# Altium integrated library Cypress Clocks & Buffers Clock Generation.IntLib: 249 symbols (part 2 of 12)
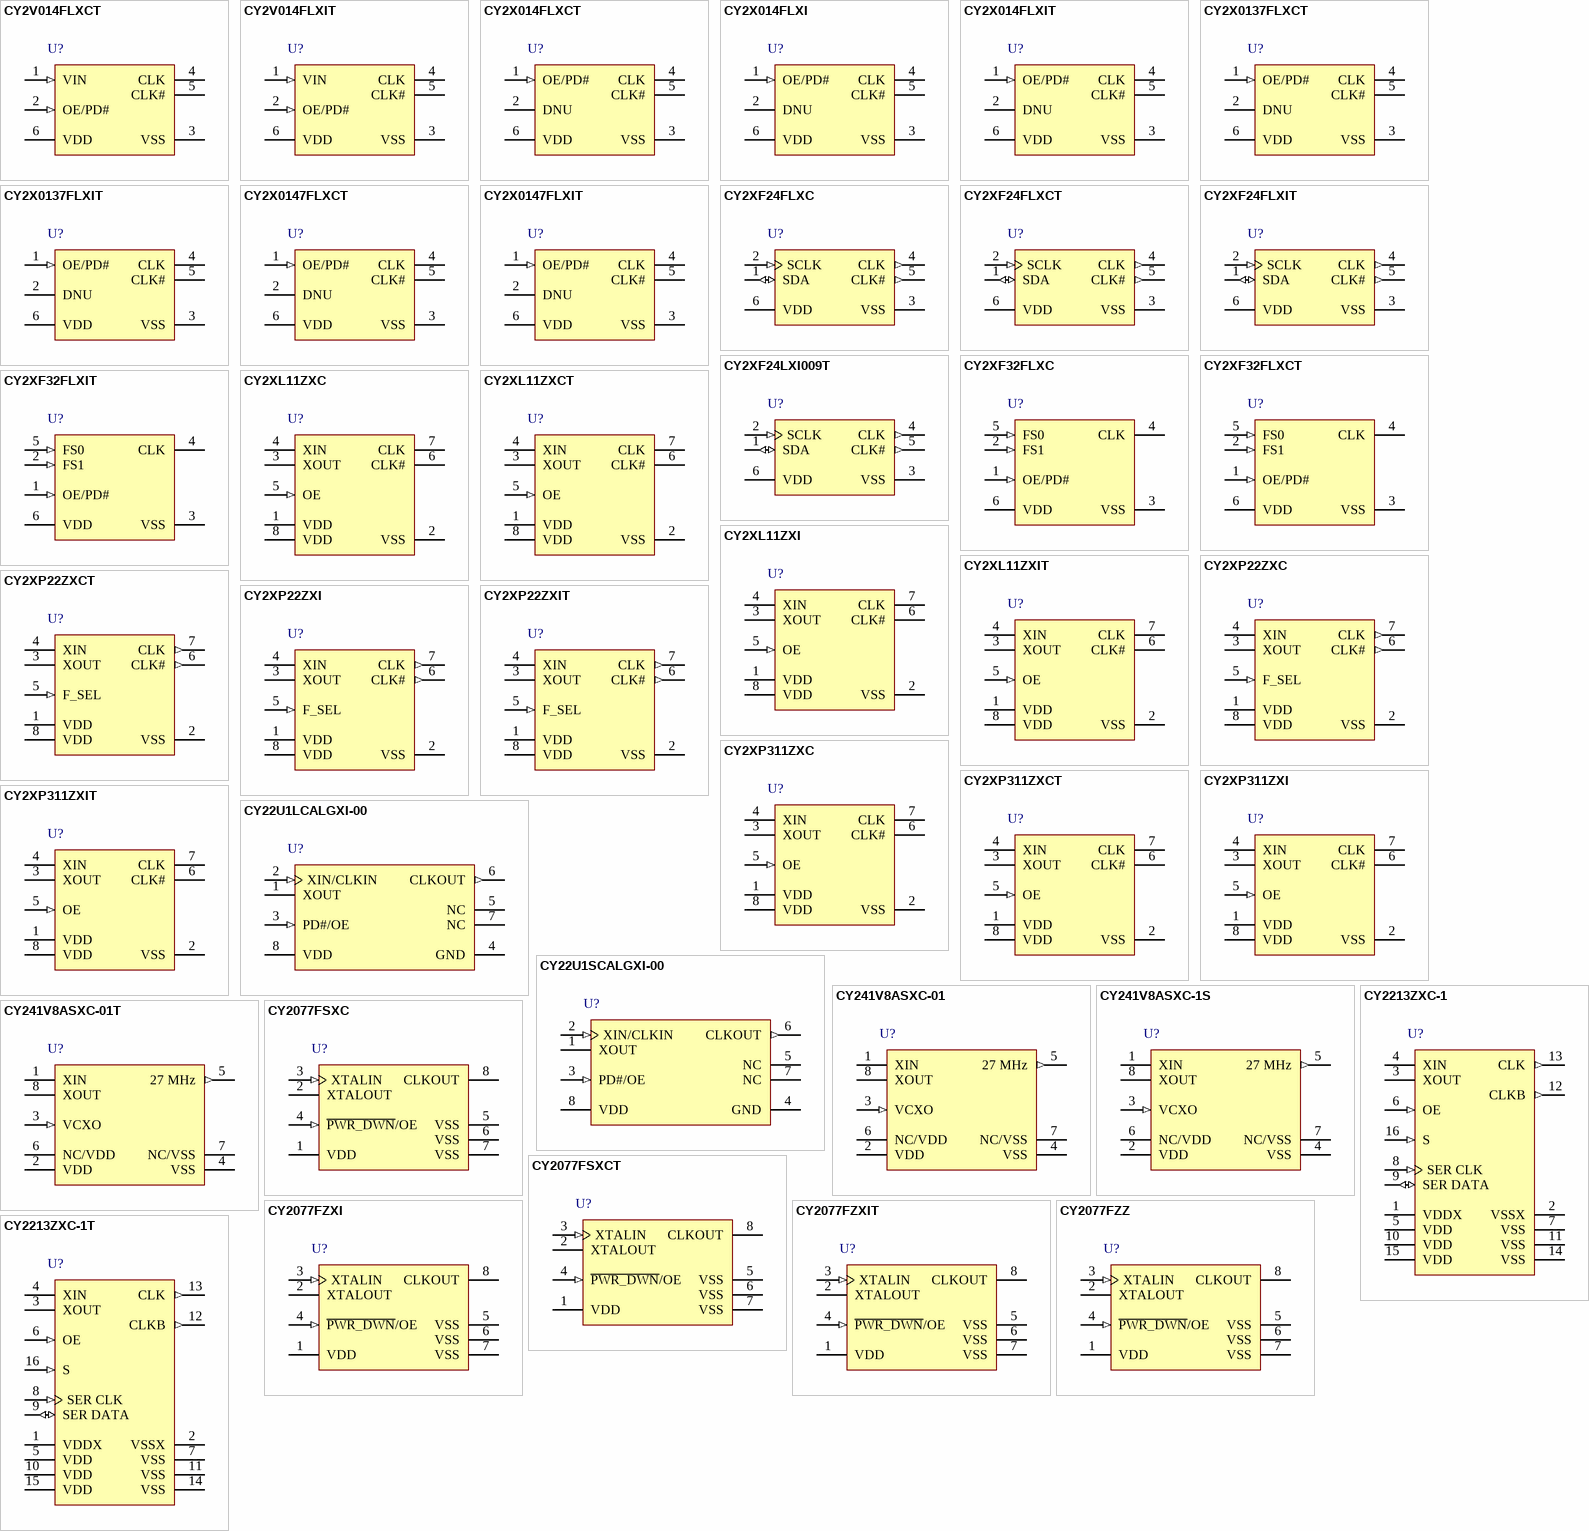
[diagram p9: symbols CY2V014FLXCT to CY2213ZXC-1T]

## CY241V8ASXC-01
designator U?
MPEG Clock Generator with VCXO, 3.3 V, 1 Output, 27 MHz, 0 to 70 degC, 8-Pin SOIC (S8), Tube; Manufacturer: Cypress; PartNumber: CY241V8ASXC-01; Input Frequency Max. (MHz): 13.5; Max. Operating Voltage (V): 3.465; Min. Operating Voltage (V): 3.135; No. of Outputs: 1; Output Frequency Max. (MHz): 27; DatasheetVersion: Rev. *F; PackageVersion: Rev. *F; PackageReference: S8; PackageDescription: 8-Pin Small Outline Integrated Circuit Package, Body 4.889 x 3.8985 mm, Pitch 1.27 mm; Supplier 1: Mouser; Supplier Part Number 1: 727-CY241V8ASXC-01; Input Frequency Min. (MHz): 13.5; Max. Operating Temp. (degreesC): 70; Min. Operating Temp. (degreesC): 0; Output Frequency Min. (MHz): 27; Packing: Tube; RoHS: Pb-Free; Mounting Technology: Surface Mount; Code_JEDEC: MS-012; ComponentLink1Description: Manufacturer URL; ComponentLink1URL: http://www.cypress.com/; ComponentLink2Description: Datasheet; ComponentLink2URL: http://www.cypress.com/?docID=21605; ComponentLink3Description: Package Specification; ComponentLink3URL: http://www.cypress.com/?docID=46287
footprint CYP-S8_N (SOIC, 8-Leads, Body 5x4mm, Pitch 1.27mm, IPC Medium Density)
footprint CYP-S8_L (SOIC, 8-Leads, Body 5x4mm, Pitch 1.27mm, IPC High Density)
footprint CYP-S8_M (SOIC, 8-Leads, Body 5x4mm, Pitch 1.27mm, IPC Low Density)
pins: 1 XIN "Reference crystal input", 2 VDD (power) "Voltage supply", 3 VCXO (in) "Input analog control for VCXO", 4 VSS (power) "Ground", 5 27 MHz (out) "27 MHz clock output", 6 NC/VDD "No connect or voltage supply", 7 NC/VSS "No connect or ground", 8 XOUT "Reference crystal output"

## CY241V8ASXC-1S
designator U?
MPEG Clock Generator with VCXO, 3.3 V, 1 Output, 27 MHz, 0 to 70 degC, 8-Pin SOIC (S8), Tube; Manufacturer: Cypress; PartNumber: CY241V8ASXC-1S; Input Frequency Max. (MHz): 13.5; Max. Operating Voltage (V): 3.465; Min. Operating Voltage (V): 3.135; No. of Outputs: 1; Output Frequency Max. (MHz): 27; DatasheetVersion: Rev. *F; PackageVersion: Rev. *F; PackageReference: S8; PackageDescription: 8-Pin Small Outline Integrated Circuit Package, Body 4.889 x 3.8985 mm, Pitch 1.27 mm; Input Frequency Min. (MHz): 13.5; Max. Operating Temp. (degreesC): 70; Min. Operating Temp. (degreesC): 0; Output Frequency Min. (MHz): 27; Packing: Tube; RoHS: Pb-Free; Mounting Technology: Surface Mount; Code_JEDEC: MS-012; ComponentLink1Description: Manufacturer URL; ComponentLink1URL: http://www.cypress.com/; ComponentLink2Description: Datasheet; ComponentLink2URL: http://www.cypress.com/?docID=21605; ComponentLink3Description: Package Specification; ComponentLink3URL: http://www.cypress.com/?docID=46287
footprint CYP-S8_N (SOIC, 8-Leads, Body 5x4mm, Pitch 1.27mm, IPC Medium Density)
footprint CYP-S8_L (SOIC, 8-Leads, Body 5x4mm, Pitch 1.27mm, IPC High Density)
footprint CYP-S8_M (SOIC, 8-Leads, Body 5x4mm, Pitch 1.27mm, IPC Low Density)
pins: 1 XIN "Reference crystal input", 2 VDD (power) "Voltage supply", 3 VCXO (in) "Input analog control for VCXO", 4 VSS (power) "Ground", 5 27 MHz (out) "27 MHz clock output", 6 NC/VDD "No connect or voltage supply", 7 NC/VSS "No connect or ground", 8 XOUT "Reference crystal output"

## CY241V8ASXC-01T
designator U?
MPEG Clock Generator with VCXO, 3.3 V, 1 Output, 27 MHz, 0 to 70 degC, 8-Pin SOIC (S8), Tape and Reel; Manufacturer: Cypress; PartNumber: CY241V8ASXC-01T; Input Frequency Max. (MHz): 13.5; Max. Operating Voltage (V): 3.465; Min. Operating Voltage (V): 3.135; No. of Outputs: 1; Output Frequency Max. (MHz): 27; DatasheetVersion: Rev. *F; PackageVersion: Rev. *F; PackageReference: S8; PackageDescription: 8-Pin Small Outline Integrated Circuit Package, Body 4.889 x 3.8985 mm, Pitch 1.27 mm; Supplier 1: Mouser; Supplier Part Number 1: 727-CY241V8ASXC-01T; Input Frequency Min. (MHz): 13.5; Max. Operating Temp. (degreesC): 70; Min. Operating Temp. (degreesC): 0; Output Frequency Min. (MHz): 27; Packing: Tape and Reel; RoHS: Pb-Free; Mounting Technology: Surface Mount; Code_JEDEC: MS-012; ComponentLink1Description: Manufacturer URL; ComponentLink1URL: http://www.cypress.com/; ComponentLink2Description: Datasheet; ComponentLink2URL: http://www.cypress.com/?docID=21605; ComponentLink3Description: Package Specification; ComponentLink3URL: http://www.cypress.com/?docID=46287
footprint CYP-S8_N (SOIC, 8-Leads, Body 5x4mm, Pitch 1.27mm, IPC Medium Density)
footprint CYP-S8_L (SOIC, 8-Leads, Body 5x4mm, Pitch 1.27mm, IPC High Density)
footprint CYP-S8_M (SOIC, 8-Leads, Body 5x4mm, Pitch 1.27mm, IPC Low Density)
pins: 1 XIN "Reference crystal input", 2 VDD (power) "Voltage supply", 3 VCXO (in) "Input analog control for VCXO", 4 VSS (power) "Ground", 5 27 MHz (out) "27 MHz clock output", 6 NC/VDD "No connect or voltage supply", 7 NC/VSS "No connect or ground", 8 XOUT "Reference crystal output"

## CY2077FSXC
designator U?
High-accuracy EPROM Programmable Single-PLL Clock Generator, 3.3 / 5.0 V, 1 Output, 0.39 to 133 MHz, 0 to 70 degC, 8-Pin SOIC (SX8), Tube; Manufacturer: Cypress; PartNumber: CY2077FSXC; Input Frequency Max. (MHz): 75; Input Frequency Min. (MHz): 1; Max. Operating Voltage (V): 5.5; Min. Operating Voltage (V): 3; Output Frequency Max. (MHz): 133; Output Frequency Min. (MHz): 0.39; DatasheetVersion: Rev. *G; PackageVersion: Rev. *E, 06/2011; PackageReference: SX8; PackageDescription: 8-pin Lead SOIC-S08, Body 4.89 x 3.90 mm,Pitch 1.27 mm; Supplier 1: Digi-Key; Supplier Part Number 1: CY2077FSXC-ND; Supplier 2: Mouser; Supplier Part Number 2: 727-CY2077FSXC; Max. Operating Temp. (degreesC): 70; Min. Operating Temp. (degreesC): 0; No. of Outputs: 1; Packing: Tube; RoHS: Pb-Free; Mounting Technology: Surface Mount; Code_JEDEC: MS-012; ComponentLink1Description: Manufacturer URL; ComponentLink1URL: http://www.cypress.com/; ComponentLink2Description: Datasheet; ComponentLink2URL: http://www.cypress.com/?docID=34267; ComponentLink3Description: Package Specification; ComponentLink3URL: http://www.cypress.com/?docID=39153
footprint CYP-SX8_N (SOIC, 8-Leads, Body 4.89x3.90mm, Pitch 1.27mm, IPC Medium Density)
footprint CYP-SX8_L (SOIC, 8-Leads, Body 4.89x3.90mm, Pitch 1.27mm, IPC High Density)
footprint CYP-SX8_M (SOIC, 8-Leads, Body 4.89x3.90mm, Pitch 1.27mm, IPC Low Density)
pins: 1 VDD (power) "Voltage supply", 2 XTALOUT "Crystal output (leave this pin floating when external reference is used)", 3 XTALIN (in) "Crystal input or external input reference", 4 ~{PWR_DWN}/OE (in) "EPROM programmable power down or output enable pin. PWR_DWN is active low. OE is active high. Weak pull up.", 5 VSS (power) "Ground (all the pins must be grounded)", 6 VSS (power) "Ground (all the pins must be grounded)", 7 VSS (power) "Ground (all the pins must be grounded)", 8 CLKOUT (hiz) "Clock output. Weak pull down"

## CY2077FSXCT
designator U?
High-accuracy EPROM Programmable Single-PLL Clock Generator, 3.3 / 5.0 V, 1 Output, 0.39 to 133 MHz, 0 to 70 degC, 8-Pin SOIC (SX8), Tape and Reel; Manufacturer: Cypress; PartNumber: CY2077FSXCT; Input Frequency Max. (MHz): 75; Input Frequency Min. (MHz): 1; Max. Operating Voltage (V): 5.5; Min. Operating Voltage (V): 3; Output Frequency Max. (MHz): 133; Output Frequency Min. (MHz): 0.39; DatasheetVersion: Rev. *G; PackageVersion: Rev. *E, 06/2011; PackageReference: SX8; PackageDescription: 8-pin Lead SOIC-S08, Body 4.89 x 3.90 mm,Pitch 1.27 mm; Supplier 1: Digi-Key; Supplier Part Number 1: CY2077FSXCT-ND; Supplier 2: Mouser; Supplier Part Number 2: 727-CY2077FSXCT; Max. Operating Temp. (degreesC): 70; Min. Operating Temp. (degreesC): 0; No. of Outputs: 1; Packing: Tape and Reel; RoHS: Pb-Free; Mounting Technology: Surface Mount; Code_JEDEC: MS-012; ComponentLink1Description: Manufacturer URL; ComponentLink1URL: http://www.cypress.com/; ComponentLink2Description: Datasheet; ComponentLink2URL: http://www.cypress.com/?docID=34267; ComponentLink3Description: Package Specification; ComponentLink3URL: http://www.cypress.com/?docID=39153
footprint CYP-SX8_N (SOIC, 8-Leads, Body 4.89x3.90mm, Pitch 1.27mm, IPC Medium Density)
footprint CYP-SX8_L (SOIC, 8-Leads, Body 4.89x3.90mm, Pitch 1.27mm, IPC High Density)
footprint CYP-SX8_M (SOIC, 8-Leads, Body 4.89x3.90mm, Pitch 1.27mm, IPC Low Density)
pins: 1 VDD (power) "Voltage supply", 2 XTALOUT "Crystal output (leave this pin floating when external reference is used)", 3 XTALIN (in) "Crystal input or external input reference", 4 ~{PWR_DWN}/OE (in) "EPROM programmable power down or output enable pin. PWR_DWN is active low. OE is active high. Weak pull up.", 5 VSS (power) "Ground (all the pins must be grounded)", 6 VSS (power) "Ground (all the pins must be grounded)", 7 VSS (power) "Ground (all the pins must be grounded)", 8 CLKOUT (hiz) "Clock output. Weak pull down"

## CY2077FZXI
designator U?
High-accuracy EPROM Programmable Single-PLL Clock Generator, 3.3 / 5.0 V, 1 Output, 0.39 to 133 MHz, -40 to 85 degC, 8-Pin TSSOP (ZX8), Tube; Manufacturer: Cypress; PartNumber: CY2077FZXI; Input Frequency Max. (MHz): 75; Input Frequency Min. (MHz): 1; Max. Operating Voltage (V): 5.5; Min. Operating Voltage (V): 3; Output Frequency Max. (MHz): 133; Output Frequency Min. (MHz): 0.39; DatasheetVersion: Rev. *G; PackageVersion: Rev. *D, 09/2011; PackageReference: ZX8; PackageDescription: 8-Pin Thin Shrink Small Outline Package, Body 3 x 4.4 mm, Pitch 0.65 mm; Supplier 1: Digi-Key; Supplier Part Number 1: CY2077FZXI-ND; Supplier 2: Mouser; Supplier Part Number 2: 727-CY2077FZXI; Max. Operating Temp. (degreesC): 85; Min. Operating Temp. (degreesC): -40; No. of Outputs: 1; Packing: Tube; RoHS: Pb-Free; Mounting Technology: Surface Mount; Code_JEDEC: MO-153; ComponentLink1Description: Manufacturer URL; ComponentLink1URL: http://www.cypress.com/; ComponentLink2Description: Datasheet; ComponentLink2URL: http://www.cypress.com/?docID=34267; ComponentLink3Description: Package Specification; ComponentLink3URL: http://www.cypress.com/?docID=39142
footprint CYP-ZX8_N (SOP, 8-Leads, Body 4.5x3.1mm, Pitch 0.65mm, IPC Medium Density)
footprint CYP-ZX8_L (SOP, 8-Leads, Body 4.5x3.1mm, Pitch 0.65mm, IPC High Density)
footprint CYP-ZX8_M (SOP, 8-Leads, Body 4.5x3.1mm, Pitch 0.65mm, IPC Low Density)
pins: 1 VDD (power) "Voltage supply", 2 XTALOUT "Crystal output (leave this pin floating when external reference is used)", 3 XTALIN (in) "Crystal input or external input reference", 4 ~{PWR_DWN}/OE (in) "EPROM programmable power down or output enable pin. PWR_DWN is active low. OE is active high. Weak pull up.", 5 VSS (power) "Ground (all the pins must be grounded)", 6 VSS (power) "Ground (all the pins must be grounded)", 7 VSS (power) "Ground (all the pins must be grounded)", 8 CLKOUT (hiz) "Clock output. Weak pull down"

## CY2077FZXIT
designator U?
High-accuracy EPROM Programmable Single-PLL Clock Generator, 3.3 / 5.0 V, 1 Output, 0.39 to 133 MHz, -40 to 85 degC, 8-Pin TSSOP (ZX8), Tape and Reel; Manufacturer: Cypress; PartNumber: CY2077FZXIT; Input Frequency Max. (MHz): 75; Input Frequency Min. (MHz): 1; Max. Operating Voltage (V): 5.5; Min. Operating Voltage (V): 3; Output Frequency Max. (MHz): 133; Output Frequency Min. (MHz): 0.39; DatasheetVersion: Rev. *G; PackageVersion: Rev. *D, 09/2011; PackageReference: ZX8; PackageDescription: 8-Pin Thin Shrink Small Outline Package, Body 3 x 4.4 mm, Pitch 0.65 mm; Supplier 1: Digi-Key; Supplier Part Number 1: CY2077FZXIT-ND; Supplier 2: Mouser; Supplier Part Number 2: 727-CY2077FZXIT; Max. Operating Temp. (degreesC): 85; Min. Operating Temp. (degreesC): -40; No. of Outputs: 1; Packing: Tape and Reel; RoHS: Pb-Free; Mounting Technology: Surface Mount; Code_JEDEC: MO-153; ComponentLink1Description: Manufacturer URL; ComponentLink1URL: http://www.cypress.com/; ComponentLink2Description: Datasheet; ComponentLink2URL: http://www.cypress.com/?docID=34267; ComponentLink3Description: Package Specification; ComponentLink3URL: http://www.cypress.com/?docID=39142
footprint CYP-ZX8_N (SOP, 8-Leads, Body 4.5x3.1mm, Pitch 0.65mm, IPC Medium Density)
footprint CYP-ZX8_L (SOP, 8-Leads, Body 4.5x3.1mm, Pitch 0.65mm, IPC High Density)
footprint CYP-ZX8_M (SOP, 8-Leads, Body 4.5x3.1mm, Pitch 0.65mm, IPC Low Density)
pins: 1 VDD (power) "Voltage supply", 2 XTALOUT "Crystal output (leave this pin floating when external reference is used)", 3 XTALIN (in) "Crystal input or external input reference", 4 ~{PWR_DWN}/OE (in) "EPROM programmable power down or output enable pin. PWR_DWN is active low. OE is active high. Weak pull up.", 5 VSS (power) "Ground (all the pins must be grounded)", 6 VSS (power) "Ground (all the pins must be grounded)", 7 VSS (power) "Ground (all the pins must be grounded)", 8 CLKOUT (hiz) "Clock output. Weak pull down"

## CY2077FZZ
designator U?
High-accuracy EPROM Programmable Single-PLL Clock Generator, 3.3 / 5.0 V, 1 Output, 0.39 to 133 MHz, 0 to 70 degC, 8-Pin TSSOP (ZX8), Tube; Manufacturer: Cypress; PartNumber: CY2077FZZ; Input Frequency Max. (MHz): 75; Input Frequency Min. (MHz): 1; Max. Operating Voltage (V): 5.5; Min. Operating Voltage (V): 3; Output Frequency Max. (MHz): 133; Output Frequency Min. (MHz): 0.39; DatasheetVersion: Rev. *G; PackageVersion: Rev. *D; PackageReference: Z8; PackageDescription: 8-Pin Thin Shrink Small Outline Package, Body 3 x 4.4 mm, Pitch 0.65 mm; Supplier 1: Digi-Key; Supplier Part Number 1: CY2077FZZ-ND; Supplier 2: Mouser; Supplier Part Number 2: 727-CY2077FZZ; Max. Operating Temp. (degreesC): 70; Min. Operating Temp. (degreesC): 0; No. of Outputs: 1; Packing: Tube; RoHS: Pb-Free; Mounting Technology: Surface Mount; Code_JEDEC: MO-153; ComponentLink1Description: Manufacturer URL; ComponentLink1URL: http://www.cypress.com/; ComponentLink2Description: Datasheet; ComponentLink2URL: http://www.cypress.com/?docID=34267; ComponentLink3Description: Package Specification; ComponentLink3URL: http://www.cypress.com/?docID=46096
footprint CYP-Z8_N (SOP, 8-Leads, Body 4.5x3.1mm, Pitch 0.65mm, IPC Medium Density)
footprint CYP-Z8_L (SOP, 8-Leads, Body 4.5x3.1mm, Pitch 0.65mm, IPC High Density)
footprint CYP-Z8_M (SOP, 8-Leads, Body 4.5x3.1mm, Pitch 0.65mm, IPC Low Density)
pins: 1 VDD (power) "Voltage supply", 2 XTALOUT "Crystal output (leave this pin floating when external reference is used)", 3 XTALIN (in) "Crystal input or external input reference", 4 ~{PWR_DWN}/OE (in) "EPROM programmable power down or output enable pin. PWR_DWN is active low. OE is active high. Weak pull up.", 5 VSS (power) "Ground (all the pins must be grounded)", 6 VSS (power) "Ground (all the pins must be grounded)", 7 VSS (power) "Ground (all the pins must be grounded)", 8 CLKOUT (hiz) "Clock output. Weak pull down"

## CY2213ZXC-1
designator U?
High Frequency Programmable PECL Clock Generator, 3.3 V, 1 Output, 125 to 400 MHz, 0 to 70 degC, 16-Pin TSSOP (ZX16), Tube; Manufacturer: Cypress; PartNumber: CY2213ZXC-1; Input Frequency Max. (MHz): 133; Input Frequency Min. (MHz): 1; Max. Operating Voltage (V): 3.6; Min. Operating Voltage (V): 3; Output Frequency Max. (MHz): 400; Output Frequency Min. (MHz): 125; DatasheetVersion: Rev. *H; PackageVersion: Rev. *D, 09/2011; PackageReference: ZX16; PackageDescription: 16-Pin Thin Shrink Small Outline Package, Body 5 x 4.4 mm, Pitch 0.65 mm; Supplier 1: Mouser; Supplier Part Number 1: 727-CY2213ZXC-1; Max. Operating Temp. (degreesC): 70; Min. Operating Temp. (degreesC): 0; No. of Outputs: 1; Packing: Tube; RoHS: Pb-Free; Mounting Technology: Surface Mount; Code_JEDEC: MO-153; ComponentLink1Description: Manufacturer URL; ComponentLink1URL: http://www.cypress.com/; ComponentLink2Description: Datasheet; ComponentLink2URL: http://www.cypress.com/?docID=38842; ComponentLink3Description: Package Specification; ComponentLink3URL: http://www.cypress.com/?docID=39143
footprint CYP-ZX16_N (SOP, 16-Leads, Body 5.1x4.5mm, Pitch 0.65mm, IPC Medium Density)
footprint CYP-ZX16_L (SOP, 16-Leads, Body 5.1x4.5mm, Pitch 0.65mm, IPC High Density)
footprint CYP-ZX16_M (SOP, 16-Leads, Body 5.1x4.5mm, Pitch 0.65mm, IPC Low Density)
pins: 1 VDDX (power) "3.3 V Power Supply for Crystal Driver", 2 VSSX (power) "Ground for Crystal Driver", 3 XOUT "Reference Crystal Feedback", 4 XIN "Reference Crystal Input", 5 VDD (power) "3.3 V Power Supply (all VDD pins must be tied directly on board)", 6 OE (in) "Output Enable, 0 = output disable, 1 = output enable (no internal pull up)", 7 VSS (power) "Ground", 8 SER CLK (in) "Serial Interface Clock", 9 SER DATA (io) "Serial Interface Data", 10 VDD (power) "3.3 V Power Supply (all VDD pins must be tied directly on board)", 11 VSS (power) "Ground", 12 CLKB (out) "LVPECL Output Clock (complement)", 13 CLK (out) "LVPECL Output Clock", 14 VSS (power) "Ground", 15 VDD (power) "3.3 V Power Supply (all VDD pins must be tied directly on board)", 16 S (in) "PLL Multiplier Select Input, Pull up Resistor Internal"

## CY2213ZXC-1T
designator U?
High Frequency Programmable PECL Clock Generator, 3.3 V, 1 Output, 125 to 400 MHz, 0 to 70 degC, 16-Pin TSSOP (ZX16), Tape and Reel; Manufacturer: Cypress; PartNumber: CY2213ZXC-1T; Input Frequency Max. (MHz): 133; Input Frequency Min. (MHz): 1; Max. Operating Voltage (V): 3.6; Min. Operating Voltage (V): 3; Output Frequency Max. (MHz): 400; Output Frequency Min. (MHz): 125; DatasheetVersion: Rev. *H; PackageVersion: Rev. *D, 09/2011; PackageReference: ZX16; PackageDescription: 16-Pin Thin Shrink Small Outline Package, Body 5 x 4.4 mm, Pitch 0.65 mm; Supplier 1: Mouser; Supplier Part Number 1: 727-CY2213ZXC-1T; Max. Operating Temp. (degreesC): 70; Min. Operating Temp. (degreesC): 0; No. of Outputs: 1; Packing: Tape and Reel; RoHS: Pb-Free; Mounting Technology: Surface Mount; Code_JEDEC: MO-153; ComponentLink1Description: Manufacturer URL; ComponentLink1URL: http://www.cypress.com/; ComponentLink2Description: Datasheet; ComponentLink2URL: http://www.cypress.com/?docID=38842; ComponentLink3Description: Package Specification; ComponentLink3URL: http://www.cypress.com/?docID=39143
footprint CYP-ZX16_N (SOP, 16-Leads, Body 5.1x4.5mm, Pitch 0.65mm, IPC Medium Density)
footprint CYP-ZX16_L (SOP, 16-Leads, Body 5.1x4.5mm, Pitch 0.65mm, IPC High Density)
footprint CYP-ZX16_M (SOP, 16-Leads, Body 5.1x4.5mm, Pitch 0.65mm, IPC Low Density)
pins: 1 VDDX (power) "3.3 V Power Supply for Crystal Driver", 2 VSSX (power) "Ground for Crystal Driver", 3 XOUT "Reference Crystal Feedback", 4 XIN "Reference Crystal Input", 5 VDD (power) "3.3 V Power Supply (all VDD pins must be tied directly on board)", 6 OE (in) "Output Enable, 0 = output disable, 1 = output enable (no internal pull up)", 7 VSS (power) "Ground", 8 SER CLK (in) "Serial Interface Clock", 9 SER DATA (io) "Serial Interface Data", 10 VDD (power) "3.3 V Power Supply (all VDD pins must be tied directly on board)", 11 VSS (power) "Ground", 12 CLKB (out) "LVPECL Output Clock (complement)", 13 CLK (out) "LVPECL Output Clock", 14 VSS (power) "Ground", 15 VDD (power) "3.3 V Power Supply (all VDD pins must be tied directly on board)", 16 S (in) "PLL Multiplier Select Input, Pull up Resistor Internal"

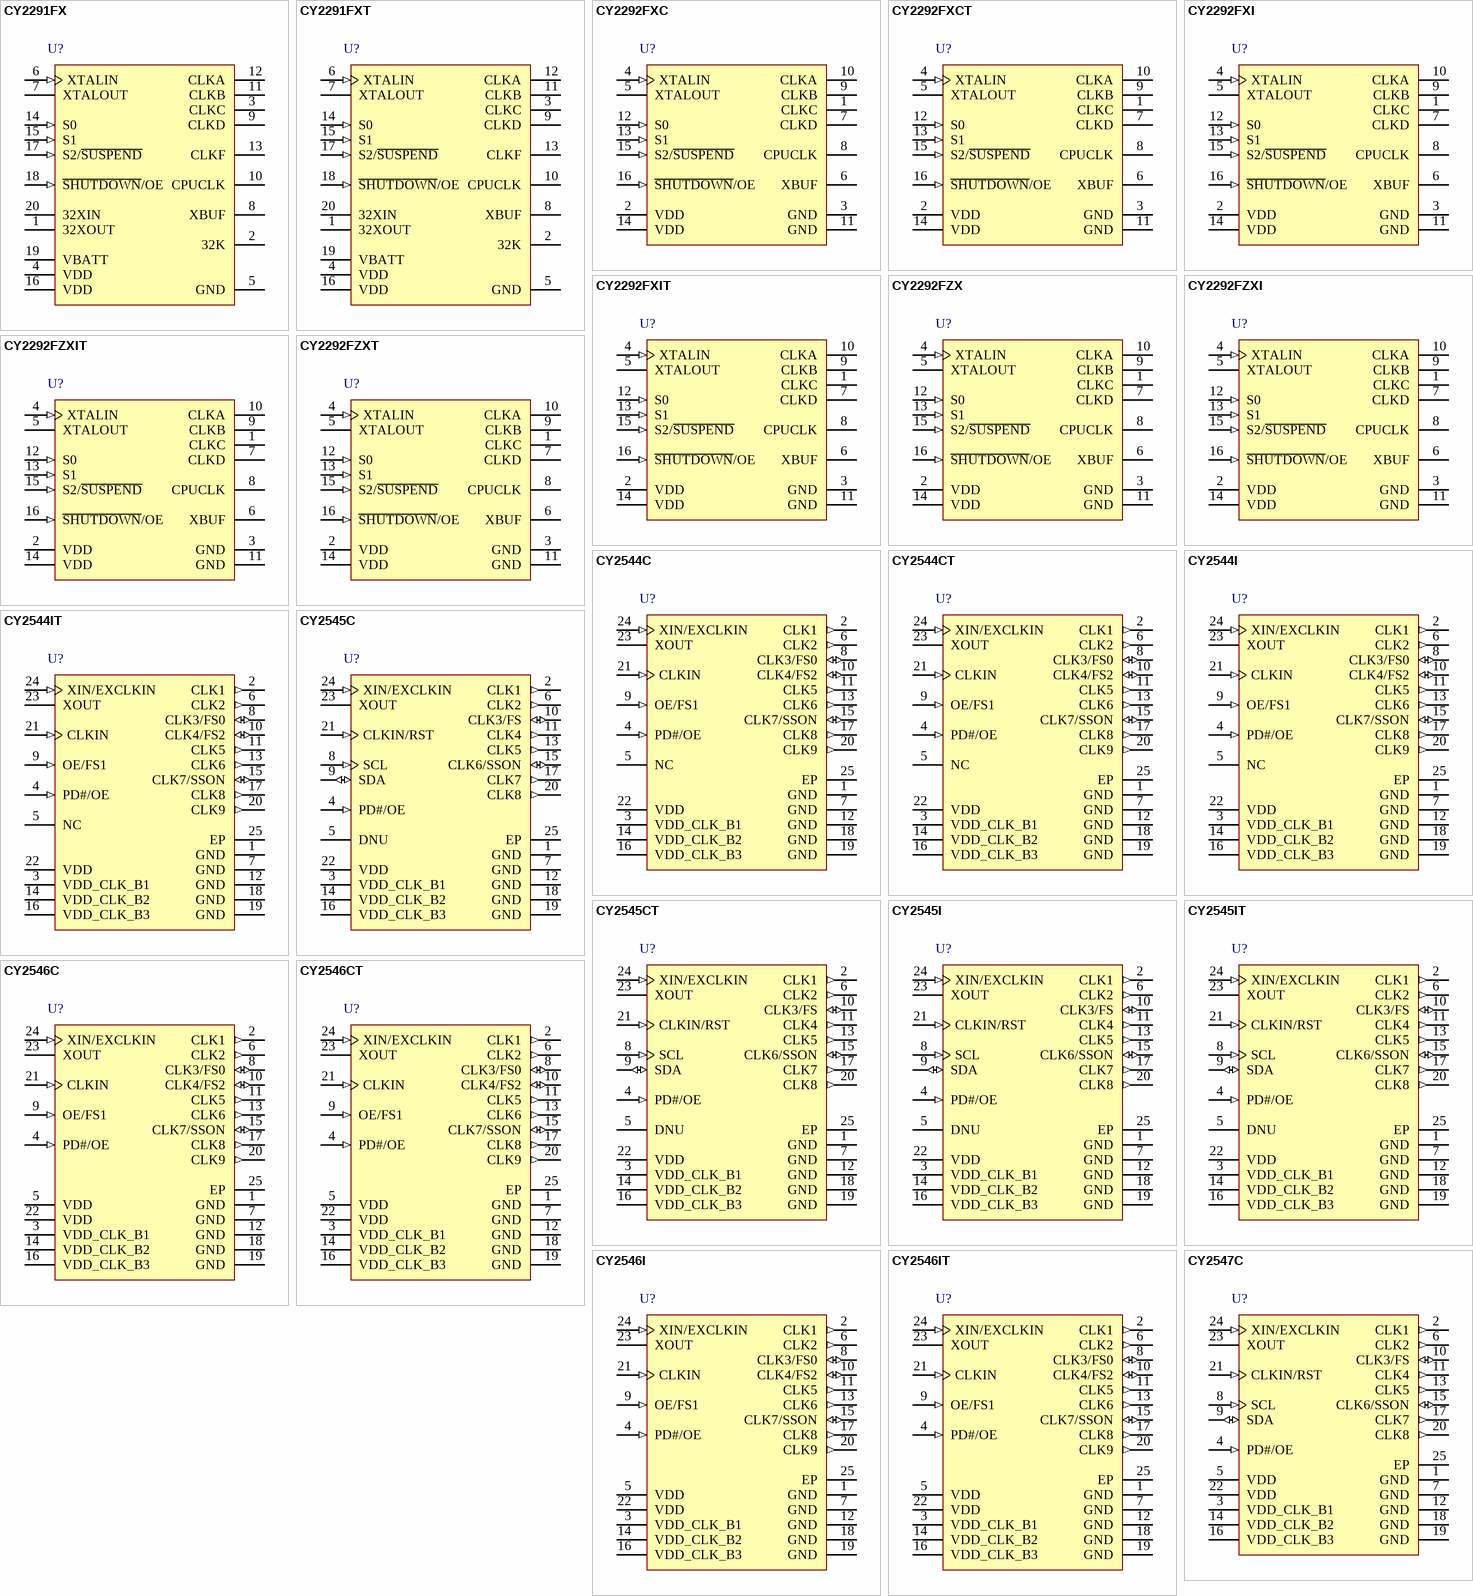
[diagram p1: symbols CY2291FX to CY2547C]

## CY2291FX
designator U?
Three-PLL General Purpose EPROM Programmable Clock Generator, 3.3 / 5.0 V, 8 Outputs, 0.077 to 90 MHz, 0 to 70 degC, 20-Pin SOIC (S20.3), Tube; Manufacturer: Cypress; PartNumber: CY2291FX; Input Frequency Max. (MHz): 30; Input Frequency Min. (MHz): 1; Max. Operating Voltage (V): 5.5; Min. Operating Voltage (V): 3; No. of Outputs: 8; Output Frequency Max. (MHz): 90; Output Frequency Min. (MHz): 0.077; DatasheetVersion: Rev. *H; PackageVersion: Rev. *E; PackageReference: S20.3; PackageDescription: 20-Pin SOIC, Body 12.83 x 7.51 mm, Pitch 1.27 mm; Supplier 1: Digi-Key; Supplier Part Number 1: 428-2184-5-ND; Supplier 2: Farnell; Supplier Part Number 2: 8911240; Supplier 3: Mouser; Supplier Part Number 3: 727-CY2291FX; Max. Operating Temp. (degreesC): 70; Min. Operating Temp. (degreesC): 0; Packing: Tube; RoHS: Pb-Free; Mounting Technology: Surface Mount; Code_JEDEC: MO-119; ComponentLink1Description: Manufacturer URL; ComponentLink1URL: http://www.cypress.com/; ComponentLink2Description: Datasheet; ComponentLink2URL: http://www.cypress.com/?docID=46969; ComponentLink3Description: Package Specification; ComponentLink3URL: http://www.cypress.com/?docID=46969
footprint CYP-S20.3_N (SOIC, 20-Leads, Body 12.83x7.51mm, Pitch 1.27mm, IPC Medium Density)
footprint CYP-S20.3_L (SOIC, 20-Leads, Body 12.83x7.51mm, Pitch 1.27mm, IPC High Density)
footprint CYP-S20.3_M (SOIC, 20-Leads, Body 12.83x7.51mm, Pitch 1.27mm, IPC Low Density)
pins: 1 32XOUT "32.768-kHz crystal feedback.", 2 32K (hiz) "32.768-kHz output (always active if VBATT is present).", 3 CLKC (hiz) "Configurable clock output C.", 4 VDD (power) "Voltage supply.", 5 GND (power) "Ground.", 6 XTALIN (in) "Reference crystal input or external reference clock input.", 7 XTALOUT "Reference crystal feedback.", 8 XBUF (hiz) "Buffered reference clock output.", 9 CLKD (hiz) "Configurable clock output D.", 10 CPUCLK (hiz) "CPU frequency clock output.", 11 CLKB (hiz) "Configurable clock output B.", 12 CLKA (hiz) "Configurable clock output A.", 13 CLKF (hiz) "Configurable clock output F.", 14 S0 (in) "CPU clock select input, bit 0.", 15 S1 (in) "CPU clock select input, bit 1.", 16 VDD (power) "Voltage supply.", 17 S2/~{SUSPEND} (in) "CPU clock select input, bit 2. Optionally enables suspend feature when LOW.", 18 ~{SHUTDOWN}/OE (in) "Places outputs in three-state[4] condition and shuts down chip when LOW. Optionally, only places outputs in three-state[4] condition and does not shut down chip when LOW.", 19 VBATT (power) "Battery supply for 32.768-kHz circuit.", 20 32XIN "32.768 kHz crystal input."

## CY2291FXT
designator U?
Three-PLL General Purpose EPROM Programmable Clock Generator, 3.3 / 5.0 V, 8 Outputs, 0.077 to 90 MHz, 0 to 70 degC, 20-Pin SOIC (S20.3), Tape and Reel; Manufacturer: Cypress; PartNumber: CY2291FXT; Input Frequency Max. (MHz): 30; Input Frequency Min. (MHz): 1; Max. Operating Voltage (V): 5.5; Min. Operating Voltage (V): 3; No. of Outputs: 8; Output Frequency Max. (MHz): 90; Output Frequency Min. (MHz): 0.077; DatasheetVersion: Rev. *H; PackageVersion: Rev. *E; PackageReference: S20.3; PackageDescription: 20-Pin SOIC, Body 12.83 x 7.51 mm, Pitch 1.27 mm; Supplier 1: Digi-Key; Supplier Part Number 1: CY2291FXT-ND; Supplier 2: Mouser; Supplier Part Number 2: 727-CY2291FXT; Max. Operating Temp. (degreesC): 70; Min. Operating Temp. (degreesC): 0; Packing: Tape and Reel; RoHS: Pb-Free; Mounting Technology: Surface Mount; Code_JEDEC: MO-119; ComponentLink1Description: Manufacturer URL; ComponentLink1URL: http://www.cypress.com/; ComponentLink2Description: Datasheet; ComponentLink2URL: http://www.cypress.com/?docID=46969; ComponentLink3Description: Package Specification; ComponentLink3URL: http://www.cypress.com/?docID=46969
footprint CYP-S20.3_N (SOIC, 20-Leads, Body 12.83x7.51mm, Pitch 1.27mm, IPC Medium Density)
footprint CYP-S20.3_L (SOIC, 20-Leads, Body 12.83x7.51mm, Pitch 1.27mm, IPC High Density)
footprint CYP-S20.3_M (SOIC, 20-Leads, Body 12.83x7.51mm, Pitch 1.27mm, IPC Low Density)
pins: 1 32XOUT "32.768-kHz crystal feedback.", 2 32K (hiz) "32.768-kHz output (always active if VBATT is present).", 3 CLKC (hiz) "Configurable clock output C.", 4 VDD (power) "Voltage supply.", 5 GND (power) "Ground.", 6 XTALIN (in) "Reference crystal input or external reference clock input.", 7 XTALOUT "Reference crystal feedback.", 8 XBUF (hiz) "Buffered reference clock output.", 9 CLKD (hiz) "Configurable clock output D.", 10 CPUCLK (hiz) "CPU frequency clock output.", 11 CLKB (hiz) "Configurable clock output B.", 12 CLKA (hiz) "Configurable clock output A.", 13 CLKF (hiz) "Configurable clock output F.", 14 S0 (in) "CPU clock select input, bit 0.", 15 S1 (in) "CPU clock select input, bit 1.", 16 VDD (power) "Voltage supply.", 17 S2/~{SUSPEND} (in) "CPU clock select input, bit 2. Optionally enables suspend feature when LOW.", 18 ~{SHUTDOWN}/OE (in) "Places outputs in three-state[4] condition and shuts down chip when LOW. Optionally, only places outputs in three-state[4] condition and does not shut down chip when LOW.", 19 VBATT (power) "Battery supply for 32.768-kHz circuit.", 20 32XIN "32.768 kHz crystal input."

## CY2292FXC
designator U?
Three PLL General Purpose EPROM Programmable Clock Generator, 3.3 / 5.0 V, 6 Outputs, 0.077 to 90 MHz, 0 to 70 degC, 16-Pin SOIC (SX16), Tube; Manufacturer: Cypress; PartNumber: CY2292FXC; Input Frequency Max. (MHz): 30; Input Frequency Min. (MHz): 1; Max. Operating Voltage (V): 5.5; Min. Operating Voltage (V): 3; No. of Outputs: 6; Output Frequency Max. (MHz): 90; Output Frequency Min. (MHz): 0.077; DatasheetVersion: Rev. *I; PackageVersion: Rev. *E, 09/2012; PackageReference: SX16; PackageDescription: 16-Pin SOIC (150 MIL), Body 9.89 x 3.90 mm, Pitch 1.27 mm; Supplier 1: Digi-Key; Supplier Part Number 1: 428-1745-5-ND; Supplier 2: Newark; Supplier Part Number 2: 19M5915; Supplier 3: Mouser; Supplier Part Number 3: 727-CY2292FXC; Max. Operating Temp. (degreesC): 70; Min. Operating Temp. (degreesC): 0; Packing: Tube; RoHS: Pb-Free; Mounting Technology: Surface Mount; Code_JEDEC: MS-012; ComponentLink1Description: Manufacturer URL; ComponentLink1URL: http://www.cypress.com/; ComponentLink2Description: Datasheet; ComponentLink2URL: http://www.cypress.com/?docID=41580; ComponentLink3Description: Package Specification; ComponentLink3URL: http://www.cypress.com/?docID=39437
footprint CYP-SX16_N (SOIC, 16-Leads, Body 9.9x3.9mm, Pitch 1.27mm, IPC Medium Density)
footprint CYP-SX16_L (SOIC, 16-Leads, Body 9.9x3.9mm, Pitch 1.27mm, IPC High Density)
footprint CYP-SX16_M (SOIC, 16-Leads, Body 9.9x3.9mm, Pitch 1.27mm, IPC Low Density)
pins: 1 CLKC (hiz) "Configurable clock output C.", 2 VDD (power) "Voltage supply.", 3 GND (power) "Ground.", 4 XTALIN (in) "Reference crystal input or external reference clock input.", 5 XTALOUT "Reference crystal feedback.", 6 XBUF (hiz) "Buffered reference clock output.", 7 CLKD (hiz) "Configurable clock output D.", 8 CPUCLK (hiz) "CPU frequency clock output.", 9 CLKB (hiz) "Configurable clock output B.", 10 CLKA (hiz) "Configurable clock output A.", 11 GND (power) "Ground.", 12 S0 (in) "CPU clock select input, bit 0.", 13 S1 (in) "CPU clock select input, bit 1.", 14 VDD (power) "Voltage supply.", 15 S2/~{SUSPEND} (in) "CPU clock select input, bit 2. Optionally enables suspend feature when LOW.", 16 ~{SHUTDOWN}/OE (in) "Places outputs in tristate condition and shuts down chip when LOW. Optionally, only places outputs in tristate condition and does not shut down chip when LOW."

## CY2292FXCT
designator U?
Three PLL General Purpose EPROM Programmable Clock Generator, 3.3 / 5.0 V, 6 Outputs, 0.077 to 90 MHz, 0 to 70 degC, 16-Pin SOIC (SX16), Tape and Reel; Manufacturer: Cypress; PartNumber: CY2292FXCT; Input Frequency Max. (MHz): 30; Input Frequency Min. (MHz): 1; Max. Operating Voltage (V): 5.5; Min. Operating Voltage (V): 3; No. of Outputs: 6; Output Frequency Max. (MHz): 90; Output Frequency Min. (MHz): 0.077; DatasheetVersion: Rev. *E; PackageVersion: Rev. *E, 09/2012; PackageReference: SX16; PackageDescription: 16-Pin SOIC (150 MIL), Body 9.89 x 3.90 mm, Pitch 1.27 mm; Supplier 1: Digi-Key; Supplier Part Number 1: CY2292FXCT-ND; Supplier 2: Mouser; Supplier Part Number 2: 727-CY2292FXCT; Max. Operating Temp. (degreesC): 70; Min. Operating Temp. (degreesC): 0; Packing: Tape and Reel; RoHS: Pb-Free; Mounting Technology: Surface Mount; Code_JEDEC: MS-012; ComponentLink1Description: Manufacturer URL; ComponentLink1URL: http://www.cypress.com/; ComponentLink2Description: Datasheet; ComponentLink2URL: http://www.cypress.com/?docID=41580; ComponentLink3Description: Package Specification; ComponentLink3URL: http://www.cypress.com/?docID=39437
footprint CYP-SX16_N (SOIC, 16-Leads, Body 9.9x3.9mm, Pitch 1.27mm, IPC Medium Density)
footprint CYP-SX16_L (SOIC, 16-Leads, Body 9.9x3.9mm, Pitch 1.27mm, IPC High Density)
footprint CYP-SX16_M (SOIC, 16-Leads, Body 9.9x3.9mm, Pitch 1.27mm, IPC Low Density)
pins: 1 CLKC (hiz) "Configurable clock output C.", 2 VDD (power) "Voltage supply.", 3 GND (power) "Ground.", 4 XTALIN (in) "Reference crystal input or external reference clock input.", 5 XTALOUT "Reference crystal feedback.", 6 XBUF (hiz) "Buffered reference clock output.", 7 CLKD (hiz) "Configurable clock output D.", 8 CPUCLK (hiz) "CPU frequency clock output.", 9 CLKB (hiz) "Configurable clock output B.", 10 CLKA (hiz) "Configurable clock output A.", 11 GND (power) "Ground.", 12 S0 (in) "CPU clock select input, bit 0.", 13 S1 (in) "CPU clock select input, bit 1.", 14 VDD (power) "Voltage supply.", 15 S2/~{SUSPEND} (in) "CPU clock select input, bit 2. Optionally enables suspend feature when LOW.", 16 ~{SHUTDOWN}/OE (in) "Places outputs in tristate condition and shuts down chip when LOW. Optionally, only places outputs in tristate condition and does not shut down chip when LOW."

## CY2292FXI
designator U?
Three PLL General Purpose EPROM Programmable Clock Generator, 3.3 / 5.0 V, 6 Outputs, 0.077 to 80 MHz, -40 to 85 degC, 16-Pin SOIC (SX16), Tube; Manufacturer: Cypress; PartNumber: CY2292FXI; Input Frequency Max. (MHz): 30; Input Frequency Min. (MHz): 1; Max. Operating Voltage (V): 5.5; Min. Operating Voltage (V): 3; No. of Outputs: 6; Output Frequency Max. (MHz): 80; Output Frequency Min. (MHz): 0.077; DatasheetVersion: Rev. *E; PackageVersion: Rev. *E, 09/2012; PackageReference: SX16; PackageDescription: 16-Pin SOIC (150 MIL), Body 9.89 x 3.90 mm, Pitch 1.27 mm; Supplier 1: Digi-Key; Supplier Part Number 1: 428-2185-5-ND; Supplier 2: Farnell; Supplier Part Number 2: 1837335; Supplier 3: Newark; Supplier Part Number 3: 19M5917; Supplier 4: Newark; Supplier Part Number 4: 88M2783; Supplier 5: Mouser; Supplier Part Number 5: 727-CY2292FXI; Max. Operating Temp. (degreesC): 85; Min. Operating Temp. (degreesC): -40; Packing: Tube; RoHS: Pb-Free; Mounting Technology: Surface Mount; Code_JEDEC: MS-012; ComponentLink1Description: Manufacturer URL; ComponentLink1URL: http://www.cypress.com/; ComponentLink2Description: Datasheet; ComponentLink2URL: http://www.cypress.com/?docID=41580; ComponentLink3Description: Package Specification; ComponentLink3URL: http://www.cypress.com/?docID=39437
footprint CYP-SX16_N (SOIC, 16-Leads, Body 9.9x3.9mm, Pitch 1.27mm, IPC Medium Density)
footprint CYP-SX16_L (SOIC, 16-Leads, Body 9.9x3.9mm, Pitch 1.27mm, IPC High Density)
footprint CYP-SX16_M (SOIC, 16-Leads, Body 9.9x3.9mm, Pitch 1.27mm, IPC Low Density)
pins: 1 CLKC (hiz) "Configurable clock output C.", 2 VDD (power) "Voltage supply.", 3 GND (power) "Ground.", 4 XTALIN (in) "Reference crystal input or external reference clock input.", 5 XTALOUT "Reference crystal feedback.", 6 XBUF (hiz) "Buffered reference clock output.", 7 CLKD (hiz) "Configurable clock output D.", 8 CPUCLK (hiz) "CPU frequency clock output.", 9 CLKB (hiz) "Configurable clock output B.", 10 CLKA (hiz) "Configurable clock output A.", 11 GND (power) "Ground.", 12 S0 (in) "CPU clock select input, bit 0.", 13 S1 (in) "CPU clock select input, bit 1.", 14 VDD (power) "Voltage supply.", 15 S2/~{SUSPEND} (in) "CPU clock select input, bit 2. Optionally enables suspend feature when LOW.", 16 ~{SHUTDOWN}/OE (in) "Places outputs in tristate condition and shuts down chip when LOW. Optionally, only places outputs in tristate condition and does not shut down chip when LOW."

## CY2292FXIT
designator U?
Three PLL General Purpose EPROM Programmable Clock Generator, 3.3 / 5.0 V, 6 Outputs, 0.077 to 80 MHz, -40 to 85 degC, 16-Pin SOIC (SX16), Tape and Reel; Manufacturer: Cypress; PartNumber: CY2292FXIT; Input Frequency Max. (MHz): 30; Input Frequency Min. (MHz): 1; Max. Operating Voltage (V): 5.5; Min. Operating Voltage (V): 3; No. of Outputs: 6; Output Frequency Max. (MHz): 80; Output Frequency Min. (MHz): 0.077; DatasheetVersion: Rev. *E; PackageVersion: Rev. *E, 09/2012; PackageReference: SX16; PackageDescription: 16-Pin SOIC (150 MIL), Body 9.89 x 3.90 mm, Pitch 1.27 mm; Supplier 1: Digi-Key; Supplier Part Number 1: CY2292FXIT-ND; Supplier 2: Mouser; Supplier Part Number 2: 727-CY2292FXIT; Max. Operating Temp. (degreesC): 85; Min. Operating Temp. (degreesC): -40; Packing: Tape and Reel; RoHS: Pb-Free; Mounting Technology: Surface Mount; Code_JEDEC: MS-012; ComponentLink1Description: Manufacturer URL; ComponentLink1URL: http://www.cypress.com/; ComponentLink2Description: Datasheet; ComponentLink2URL: http://www.cypress.com/?docID=41580; ComponentLink3Description: Package Specification; ComponentLink3URL: http://www.cypress.com/?docID=39437
footprint CYP-SX16_N (SOIC, 16-Leads, Body 9.9x3.9mm, Pitch 1.27mm, IPC Medium Density)
footprint CYP-SX16_L (SOIC, 16-Leads, Body 9.9x3.9mm, Pitch 1.27mm, IPC High Density)
footprint CYP-SX16_M (SOIC, 16-Leads, Body 9.9x3.9mm, Pitch 1.27mm, IPC Low Density)
pins: 1 CLKC (hiz) "Configurable clock output C.", 2 VDD (power) "Voltage supply.", 3 GND (power) "Ground.", 4 XTALIN (in) "Reference crystal input or external reference clock input.", 5 XTALOUT "Reference crystal feedback.", 6 XBUF (hiz) "Buffered reference clock output.", 7 CLKD (hiz) "Configurable clock output D.", 8 CPUCLK (hiz) "CPU frequency clock output.", 9 CLKB (hiz) "Configurable clock output B.", 10 CLKA (hiz) "Configurable clock output A.", 11 GND (power) "Ground.", 12 S0 (in) "CPU clock select input, bit 0.", 13 S1 (in) "CPU clock select input, bit 1.", 14 VDD (power) "Voltage supply.", 15 S2/~{SUSPEND} (in) "CPU clock select input, bit 2. Optionally enables suspend feature when LOW.", 16 ~{SHUTDOWN}/OE (in) "Places outputs in tristate condition and shuts down chip when LOW. Optionally, only places outputs in tristate condition and does not shut down chip when LOW."

## CY2292FZX
designator U?
Three PLL General Purpose EPROM Programmable Clock Generator, 3.3 / 5.0 V, 6 Outputs, 0.077 to 90 MHz, 0 to 70 degC, 16-Pin TSSOP (ZX16), Tube; Manufacturer: Cypress; PartNumber: CY2292FZX; Input Frequency Max. (MHz): 30; Input Frequency Min. (MHz): 1; Max. Operating Voltage (V): 5.5; Min. Operating Voltage (V): 3; No. of Outputs: 6; Output Frequency Max. (MHz): 90; Output Frequency Min. (MHz): 0.077; DatasheetVersion: Rev. *E; PackageVersion: Rev. *D, 09/2011; PackageReference: ZX16; PackageDescription: 16-Pin Thin Shrink Small Outline Package, Body 5 x 4.4 mm, Pitch 0.65 mm; Supplier 1: Mouser; Supplier Part Number 1: 727-CY2292FZX; Max. Operating Temp. (degreesC): 70; Min. Operating Temp. (degreesC): 0; Packing: Tube; RoHS: Pb-Free; Mounting Technology: Surface Mount; Code_JEDEC: MO-153; ComponentLink1Description: Manufacturer URL; ComponentLink1URL: http://www.cypress.com/; ComponentLink2Description: Datasheet; ComponentLink2URL: http://www.cypress.com/?docID=41580; ComponentLink3Description: Package Specification; ComponentLink3URL: http://www.cypress.com/?docID=39143
footprint CYP-ZX16_N (SOP, 16-Leads, Body 5.1x4.5mm, Pitch 0.65mm, IPC Medium Density)
footprint CYP-ZX16_L (SOP, 16-Leads, Body 5.1x4.5mm, Pitch 0.65mm, IPC High Density)
footprint CYP-ZX16_M (SOP, 16-Leads, Body 5.1x4.5mm, Pitch 0.65mm, IPC Low Density)
pins: 1 CLKC (hiz) "Configurable clock output C.", 2 VDD (power) "Voltage supply.", 3 GND (power) "Ground.", 4 XTALIN (in) "Reference crystal input or external reference clock input.", 5 XTALOUT "Reference crystal feedback.", 6 XBUF (hiz) "Buffered reference clock output.", 7 CLKD (hiz) "Configurable clock output D.", 8 CPUCLK (hiz) "CPU frequency clock output.", 9 CLKB (hiz) "Configurable clock output B.", 10 CLKA (hiz) "Configurable clock output A.", 11 GND (power) "Ground.", 12 S0 (in) "CPU clock select input, bit 0.", 13 S1 (in) "CPU clock select input, bit 1.", 14 VDD (power) "Voltage supply.", 15 S2/~{SUSPEND} (in) "CPU clock select input, bit 2. Optionally enables suspend feature when LOW.", 16 ~{SHUTDOWN}/OE (in) "Places outputs in tristate[3] condition and shuts down chip when LOW. Optionally, only places outputs in tristate[3] condition and does not shut down chip when LOW."

## CY2292FZXI
designator U?
Three PLL General Purpose EPROM Programmable Clock Generator, 3.3 / 5.0 V, 6 Outputs, 0.077 to 80 MHz, -40 to 85 degC, 16-Pin TSSOP (ZX16), Tube; Manufacturer: Cypress; PartNumber: CY2292FZXI; Input Frequency Max. (MHz): 30; Input Frequency Min. (MHz): 1; Max. Operating Voltage (V): 5.5; Min. Operating Voltage (V): 3; No. of Outputs: 6; Output Frequency Max. (MHz): 80; Output Frequency Min. (MHz): 0.077; DatasheetVersion: Rev. *E; PackageVersion: Rev. *D, 09/2011; PackageReference: ZX16; PackageDescription: 16-Pin Thin Shrink Small Outline Package, Body 5 x 4.4 mm, Pitch 0.65 mm; Supplier 1: Digi-Key; Supplier Part Number 1: CY2292FZXI-ND; Supplier 2: Mouser; Supplier Part Number 2: 727-CY2292FZXI; Max. Operating Temp. (degreesC): 85; Min. Operating Temp. (degreesC): -40; Packing: Tube; RoHS: Pb-Free; Mounting Technology: Surface Mount; Code_JEDEC: MO-153; ComponentLink1Description: Manufacturer URL; ComponentLink1URL: http://www.cypress.com/; ComponentLink2Description: Datasheet; ComponentLink2URL: http://www.cypress.com/?docID=41580; ComponentLink3Description: Package Specification; ComponentLink3URL: http://www.cypress.com/?docID=39143
footprint CYP-ZX16_N (SOP, 16-Leads, Body 5.1x4.5mm, Pitch 0.65mm, IPC Medium Density)
footprint CYP-ZX16_L (SOP, 16-Leads, Body 5.1x4.5mm, Pitch 0.65mm, IPC High Density)
footprint CYP-ZX16_M (SOP, 16-Leads, Body 5.1x4.5mm, Pitch 0.65mm, IPC Low Density)
pins: 1 CLKC (hiz) "Configurable clock output C.", 2 VDD (power) "Voltage supply.", 3 GND (power) "Ground.", 4 XTALIN (in) "Reference crystal input or external reference clock input.", 5 XTALOUT "Reference crystal feedback.", 6 XBUF (hiz) "Buffered reference clock output.", 7 CLKD (hiz) "Configurable clock output D.", 8 CPUCLK (hiz) "CPU frequency clock output.", 9 CLKB (hiz) "Configurable clock output B.", 10 CLKA (hiz) "Configurable clock output A.", 11 GND (power) "Ground.", 12 S0 (in) "CPU clock select input, bit 0.", 13 S1 (in) "CPU clock select input, bit 1.", 14 VDD (power) "Voltage supply.", 15 S2/~{SUSPEND} (in) "CPU clock select input, bit 2. Optionally enables suspend feature when LOW.", 16 ~{SHUTDOWN}/OE (in) "Places outputs in tristate[3] condition and shuts down chip when LOW. Optionally, only places outputs in tristate[3] condition and does not shut down chip when LOW."

## CY2292FZXIT
designator U?
Three PLL General Purpose EPROM Programmable Clock Generator, 3.3 / 5.0 V, 6 Outputs, 0.077 to 80 MHz, -40 to 85 degC, 16-Pin TSSOP (ZX16), Tape and Reel; Manufacturer: Cypress; PartNumber: CY2292FZXIT; Input Frequency Max. (MHz): 30; Input Frequency Min. (MHz): 1; Max. Operating Voltage (V): 5.5; Min. Operating Voltage (V): 3; No. of Outputs: 6; Output Frequency Max. (MHz): 80; Output Frequency Min. (MHz): 0.077; DatasheetVersion: Rev. *E; PackageVersion: Rev. *D, 09/2011; PackageReference: ZX16; PackageDescription: 16-Pin Thin Shrink Small Outline Package, Body 5 x 4.4 mm, Pitch 0.65 mm; Supplier 1: Digi-Key; Supplier Part Number 1: CY2292FZXIT-ND; Supplier 2: Mouser; Supplier Part Number 2: 727-CY2292FZXIT; Max. Operating Temp. (degreesC): 85; Min. Operating Temp. (degreesC): -40; Packing: Tape and Reel; RoHS: Pb-Free; Mounting Technology: Surface Mount; Code_JEDEC: MO-153; ComponentLink1Description: Manufacturer URL; ComponentLink1URL: http://www.cypress.com/; ComponentLink2Description: Datasheet; ComponentLink2URL: http://www.cypress.com/?docID=41580; ComponentLink3Description: Package Specification; ComponentLink3URL: http://www.cypress.com/?docID=39143
footprint CYP-ZX16_N (SOP, 16-Leads, Body 5.1x4.5mm, Pitch 0.65mm, IPC Medium Density)
footprint CYP-ZX16_L (SOP, 16-Leads, Body 5.1x4.5mm, Pitch 0.65mm, IPC High Density)
footprint CYP-ZX16_M (SOP, 16-Leads, Body 5.1x4.5mm, Pitch 0.65mm, IPC Low Density)
pins: 1 CLKC (hiz) "Configurable clock output C.", 2 VDD (power) "Voltage supply.", 3 GND (power) "Ground.", 4 XTALIN (in) "Reference crystal input or external reference clock input.", 5 XTALOUT "Reference crystal feedback.", 6 XBUF (hiz) "Buffered reference clock output.", 7 CLKD (hiz) "Configurable clock output D.", 8 CPUCLK (hiz) "CPU frequency clock output.", 9 CLKB (hiz) "Configurable clock output B.", 10 CLKA (hiz) "Configurable clock output A.", 11 GND (power) "Ground.", 12 S0 (in) "CPU clock select input, bit 0.", 13 S1 (in) "CPU clock select input, bit 1.", 14 VDD (power) "Voltage supply.", 15 S2/~{SUSPEND} (in) "CPU clock select input, bit 2. Optionally enables suspend feature when LOW.", 16 ~{SHUTDOWN}/OE (in) "Places outputs in tristate[3] condition and shuts down chip when LOW. Optionally, only places outputs in tristate[3] condition and does not shut down chip when LOW."

## CY2292FZXT
designator U?
Three PLL General Purpose EPROM Programmable Clock Generator, 3.3 / 5.0 V, 6 Outputs, 0.077 to 90 MHz, 0 to 70 degC, 16-Pin TSSOP (ZX16), Tape and Reel; Manufacturer: Cypress; PartNumber: CY2292FZXT; Input Frequency Max. (MHz): 30; Input Frequency Min. (MHz): 1; Max. Operating Voltage (V): 5.5; Min. Operating Voltage (V): 3; No. of Outputs: 6; Output Frequency Max. (MHz): 90; Output Frequency Min. (MHz): 0.077; DatasheetVersion: Rev. *E; PackageVersion: Rev. *D, 09/2011; PackageReference: ZX16; PackageDescription: 16-Pin Thin Shrink Small Outline Package, Body 5 x 4.4 mm, Pitch 0.65 mm; Supplier 1: Mouser; Supplier Part Number 1: 727-CY2292FZXT; Max. Operating Temp. (degreesC): 70; Min. Operating Temp. (degreesC): 0; Packing: Tape and Reel; RoHS: Pb-Free; Mounting Technology: Surface Mount; Code_JEDEC: MO-153; ComponentLink1Description: Manufacturer URL; ComponentLink1URL: http://www.cypress.com/; ComponentLink2Description: Datasheet; ComponentLink2URL: http://www.cypress.com/?docID=41580; ComponentLink3Description: Package Specification; ComponentLink3URL: http://www.cypress.com/?docID=39143
footprint CYP-ZX16_N (SOP, 16-Leads, Body 5.1x4.5mm, Pitch 0.65mm, IPC Medium Density)
footprint CYP-ZX16_L (SOP, 16-Leads, Body 5.1x4.5mm, Pitch 0.65mm, IPC High Density)
footprint CYP-ZX16_M (SOP, 16-Leads, Body 5.1x4.5mm, Pitch 0.65mm, IPC Low Density)
pins: 1 CLKC (hiz) "Configurable clock output C.", 2 VDD (power) "Voltage supply.", 3 GND (power) "Ground.", 4 XTALIN (in) "Reference crystal input or external reference clock input.", 5 XTALOUT "Reference crystal feedback.", 6 XBUF (hiz) "Buffered reference clock output.", 7 CLKD (hiz) "Configurable clock output D.", 8 CPUCLK (hiz) "CPU frequency clock output.", 9 CLKB (hiz) "Configurable clock output B.", 10 CLKA (hiz) "Configurable clock output A.", 11 GND (power) "Ground.", 12 S0 (in) "CPU clock select input, bit 0.", 13 S1 (in) "CPU clock select input, bit 1.", 14 VDD (power) "Voltage supply.", 15 S2/~{SUSPEND} (in) "CPU clock select input, bit 2. Optionally enables suspend feature when LOW.", 16 ~{SHUTDOWN}/OE (in) "Places outputs in tristate[3] condition and shuts down chip when LOW. Optionally, only places outputs in tristate[3] condition and does not shut down chip when LOW."

## CY2544C
designator U?
Quad PLL Programmable Clock Generator with Spread Spectrum, 2.5 / 3.0 / 3.3 V, 9 Outputs, 3 to 166 MHz, 0 to 70 degC, 24-Pin QFN (LY24), Tube; Manufacturer: Cypress; PartNumber: CY2544C; Input Frequency Max. (MHz): 166; Input Frequency Min. (MHz): 8; Max. Operating Voltage (V): 3.6; Min. Operating Voltage (V): 2.25; No. of Outputs: 9; Output Frequency Min. (MHz): 3; DatasheetVersion: Rev. *H; PackageVersion: Rev. *D; PackageReference: LY24; PackageDescription: 24-Pin Quad Flat No Lead, Body 4 x 4 mm, Pitch 0.5 mm; Max. Operating Temp. (degreesC): 70; Min. Operating Temp. (degreesC): 0; Output Frequency Max. (MHz): 166; Packing: Tube; RoHS: Pb-Free; Mounting Technology: Surface Mount; Code_JEDEC: MO-220; ComponentLink1Description: Manufacturer URL; ComponentLink1URL: http://www.cypress.com/; ComponentLink2Description: Datasheet; ComponentLink2URL: http://www.cypress.com/?docID=47416; ComponentLink3Description: Package Specification; ComponentLink3URL: http://www.cypress.com/?docID=47416
footprint CYP-LY24_N (QFN, 24-Leads, Body 4.1x4.1mm, Pitch 0.5mm, Thermal Pad 2.49x2.49mm, IPC Medium Density)
footprint CYP-LY24_L (QFN, 24-Leads, Body 4.1x4.1mm, Pitch 0.5mm, Thermal Pad 2.49x2.49mm, IPC High Density)
footprint CYP-LY24_M (QFN, 24-Leads, Body 4.1x4.1mm, Pitch 0.5mm, Thermal Pad 2.49x2.49mm, IPC Low Density)
pins: 1 GND (power) "Power supply ground", 2 CLK1 (out) "Programmable clock output. Output voltage depends on VDD_CLK_B1 voltage", 3 VDD_CLK_B1 (power) "Power supply for bank1, (CLK1, CLK2, CLK3) Outputs: 2.5 V/3.0 V/3.3 V", 4 PD#/OE (in) "Multifunction programmable pin. Output enable or power-down mode", 5 NC "No Connect", 6 CLK2 (out) "Programmable Clock Output. Output voltage depends on VDD_CLK_B1 voltage", 7 GND (power) "Power supply ground", 8 CLK3/FS0 (io) "Multifunction programmable pin. Programmable clock output clock or frequency select pin. Output voltage of CLK3 depends on VDD_CLK_B1 voltage", 9 OE/FS1 (in) "Multifunction programmable pin. Output enable or frequency select pin", 10 CLK4/FS2 (io) "Multifunction programmable pin. Programmable clock output or frequency select input pin. Output voltage of CLK4 depends on VDD_CLK_B2 voltage", 11 CLK5 (out) "Programmable clock output. Output voltage depends on VDD_CLK_B2 voltage", 12 GND (power) "Power supply ground", 13 CLK6 (out) "Programmable clock output. Output voltage depends on VDD_CLK_B2 voltage", 14 VDD_CLK_B2 (power) "Power supply for bank2, (CLK4, CLK5, CLK6) Outputs. 2.5 V/3.0 V/3.3 V", 15 CLK7/SSON (io) "Multifunction programmable pin. Programmable clock output or spread spectrum ON/OFF control input pin. Output voltage of CLK7 depends on Bank3 voltage", 16 VDD_CLK_B3 (power) "Power supply for bank3, (CLK7, CLK8, CLK9) Outputs. 2.5 V/3.0 V/3.3 V", 17 CLK8 (out) "Programmable output clock. Output voltage depends on Bank3 voltage", 18 GND (power) "Power supply ground", 19 GND (power) "Power supply ground", 20 CLK9 (out) "Programmable clock output. Output voltage depends on VDD_CLK_B3 voltage", 21 CLKIN (in) "2.5 V/3.0 V/3.3 V reference clock input. The signal level of CLKIN input must track VDD power supply on pin 22.", 22 VDD (power) "Power supply. 2.5 V/3.0 V/3.3 V", 23 XOUT "Crystal output for CY2544", 24 XIN/EXCLKIN (in) "Crystal input or 1.8 V external clock input for CY2544", 25 EP

## CY2544CT
designator U?
Quad PLL Programmable Clock Generator with Spread Spectrum, 2.5 / 3.0 / 3.3 V, 9 Outputs, 3 to 166 MHz, 0 to 70 degC, 24-Pin QFN (LY24), Tape and Reel; Manufacturer: Cypress; PartNumber: CY2544CT; Input Frequency Max. (MHz): 166; Input Frequency Min. (MHz): 8; Max. Operating Voltage (V): 3.6; Min. Operating Voltage (V): 2.25; No. of Outputs: 9; Output Frequency Min. (MHz): 3; DatasheetVersion: Rev. *D; PackageVersion: Rev. *D; PackageReference: LY24; PackageDescription: 24-Pin Quad Flat No Lead, Body 4 x 4 mm, Pitch 0.5 mm; Max. Operating Temp. (degreesC): 70; Min. Operating Temp. (degreesC): 0; Output Frequency Max. (MHz): 166; Packing: Tape and Reel; RoHS: Pb-Free; Mounting Technology: Surface Mount; Code_JEDEC: MO-220; ComponentLink1Description: Manufacturer URL; ComponentLink1URL: http://www.cypress.com/; ComponentLink2Description: Datasheet; ComponentLink2URL: http://www.cypress.com/?docID=47416; ComponentLink3Description: Package Specification; ComponentLink3URL: http://www.cypress.com/?docID=47416
footprint CYP-LY24_N (QFN, 24-Leads, Body 4.1x4.1mm, Pitch 0.5mm, Thermal Pad 2.49x2.49mm, IPC Medium Density)
footprint CYP-LY24_L (QFN, 24-Leads, Body 4.1x4.1mm, Pitch 0.5mm, Thermal Pad 2.49x2.49mm, IPC High Density)
footprint CYP-LY24_M (QFN, 24-Leads, Body 4.1x4.1mm, Pitch 0.5mm, Thermal Pad 2.49x2.49mm, IPC Low Density)
pins: 1 GND (power) "Power supply ground", 2 CLK1 (out) "Programmable clock output. Output voltage depends on VDD_CLK_B1 voltage", 3 VDD_CLK_B1 (power) "Power supply for bank1, (CLK1, CLK2, CLK3) Outputs: 2.5 V/3.0 V/3.3 V", 4 PD#/OE (in) "Multifunction programmable pin. Output enable or power-down mode", 5 NC "No Connect", 6 CLK2 (out) "Programmable Clock Output. Output voltage depends on VDD_CLK_B1 voltage", 7 GND (power) "Power supply ground", 8 CLK3/FS0 (io) "Multifunction programmable pin. Programmable clock output clock or frequency select pin. Output voltage of CLK3 depends on VDD_CLK_B1 voltage", 9 OE/FS1 (in) "Multifunction programmable pin. Output enable or frequency select pin", 10 CLK4/FS2 (io) "Multifunction programmable pin. Programmable clock output or frequency select input pin. Output voltage of CLK4 depends on VDD_CLK_B2 voltage", 11 CLK5 (out) "Programmable clock output. Output voltage depends on VDD_CLK_B2 voltage", 12 GND (power) "Power supply ground", 13 CLK6 (out) "Programmable clock output. Output voltage depends on VDD_CLK_B2 voltage", 14 VDD_CLK_B2 (power) "Power supply for bank2, (CLK4, CLK5, CLK6) Outputs. 2.5 V/3.0 V/3.3 V", 15 CLK7/SSON (io) "Multifunction programmable pin. Programmable clock output or spread spectrum ON/OFF control input pin. Output voltage of CLK7 depends on Bank3 voltage", 16 VDD_CLK_B3 (power) "Power supply for bank3, (CLK7, CLK8, CLK9) Outputs. 2.5 V/3.0 V/3.3 V", 17 CLK8 (out) "Programmable output clock. Output voltage depends on Bank3 voltage", 18 GND (power) "Power supply ground", 19 GND (power) "Power supply ground", 20 CLK9 (out) "Programmable clock output. Output voltage depends on VDD_CLK_B3 voltage", 21 CLKIN (in) "2.5 V/3.0 V/3.3 V reference clock input. The signal level of CLKIN input must track VDD power supply on pin 22.", 22 VDD (power) "Power supply. 2.5 V/3.0 V/3.3 V", 23 XOUT "Crystal output for CY2544", 24 XIN/EXCLKIN (in) "Crystal input or 1.8 V external clock input for CY2544", 25 EP